# EAGLE library part M051 (library dec-r)
M051 Positive Bus Converter
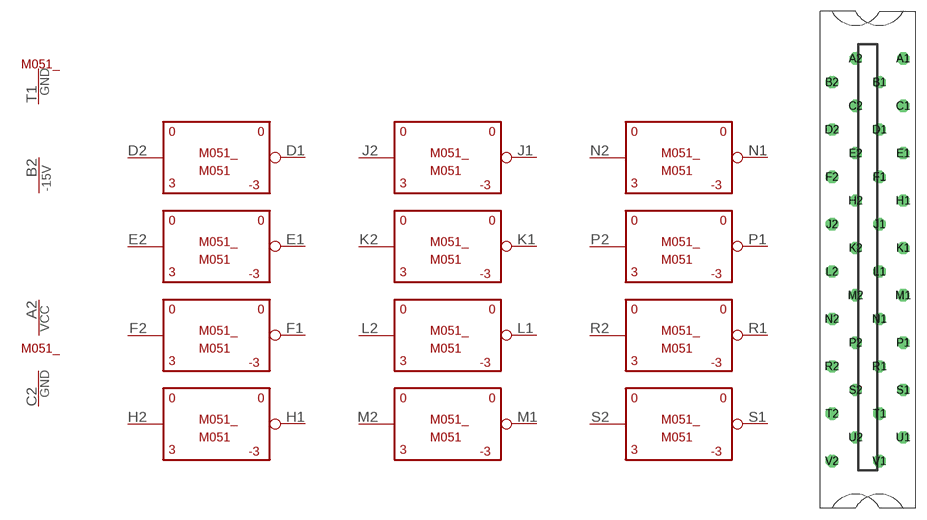
[diagram p67: symbol with the pads of H807; footprint H807]

Designator prefix M051_; gates G$8=POWER D1=M051 E`=M051 F1=M051 H1=M051 J1=M051 K1=M051 L1=M051 M1=M051 N1=M051 P1=M051 R1=M051 S1=M051 G$15=T1GND G$7=-15V

## M051  [H807]
A2  G$8:VCC  pwr
B2  G$7:-15V  pwr
C2  G$8:GND  pwr
D1  D1:OUT  out
D2  D1:IN  in
E1  E`:OUT  out
E2  E`:IN  in
F1  F1:OUT  out
F2  F1:IN  in
H1  H1:OUT  out
H2  H1:IN  in
J1  J1:OUT  out
J2  J1:IN  in
K1  K1:OUT  out
K2  K1:IN  in
L1  L1:OUT  out
L2  L1:IN  in
M1  M1:OUT  out
M2  M1:IN  in
N1  N1:OUT  out
N2  N1:IN  in
P1  P1:OUT  out
P2  P1:IN  in
R1  R1:OUT  out
R2  R1:IN  in
S1  S1:OUT  out
S2  S1:IN  in
T1  G$15:GND  pwr

## Footprint H807 (pad centres in mm)
One-wide female edge connector
drill 1.092 octagon: A1 4.763,28.575; A2 -1.587,28.575; B1 1.587,25.4; B2 -4.763,25.4; C1 4.763,22.225; C2 -1.587,22.225; D1 1.587,19.05; D2 -4.763,19.05; E1 4.763,15.875; E2 -1.587,15.875; F1 1.587,12.7; F2 -4.763,12.7; H1 4.763,9.525; H2 -1.587,9.525; J1 1.587,6.35; J2 -4.763,6.35; K1 4.763,3.175; K2 -1.587,3.175; L1 1.587,0; L2 -4.763,0; M1 4.763,-3.175; M2 -1.587,-3.175; N1 1.587,-6.35; N2 -4.763,-6.35; P1 4.763,-9.525; P2 -1.587,-9.525; R1 1.587,-12.7; R2 -4.763,-12.7; S1 4.763,-15.875; S2 -1.587,-15.875; T1 1.587,-19.05; T2 -4.763,-19.05; U1 4.763,-22.225; U2 -1.587,-22.225; V1 1.587,-25.4; V2 -4.763,-25.4